# Altium integrated library Diod.IntLib: 3 symbols
Pins are listed as number, name and electrical type; pins without a type are passive.

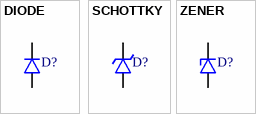
[diagram p0: symbols DIODE to ZENER]

## DIODE
designator D?
footprint DO213AB
footprint SMB
footprint SMA
footprint SOD80C
footprint SOD123
footprint SMC
pins: A ANODE, C CATHODE

## SCHOTTKY
designator D?
footprint DO213AB
footprint SMB
footprint SMA
footprint SOD80C
footprint SOD123
footprint SMC
pins: A ANODE, C CATHODE

## ZENER
designator D?
footprint DO213AB
footprint SMB
footprint SMA
footprint SOD80C
footprint SOD123
footprint SMC
pins: A ANODE, C CATHODE